# Altium footprint library Pattern No3d 20090609.PcbLib: 323 footprints (part 20 of 22)
Each footprint in its own frame and in the unit in brackets; x right, y up, seen from the top. Pads: shape width x height; smd on the part's side, far side on the other; paste and mask are expansions set on the pad; w line width, h text height; cw(c..) or ccw(c..) is an arc to the next point about the centre after c.
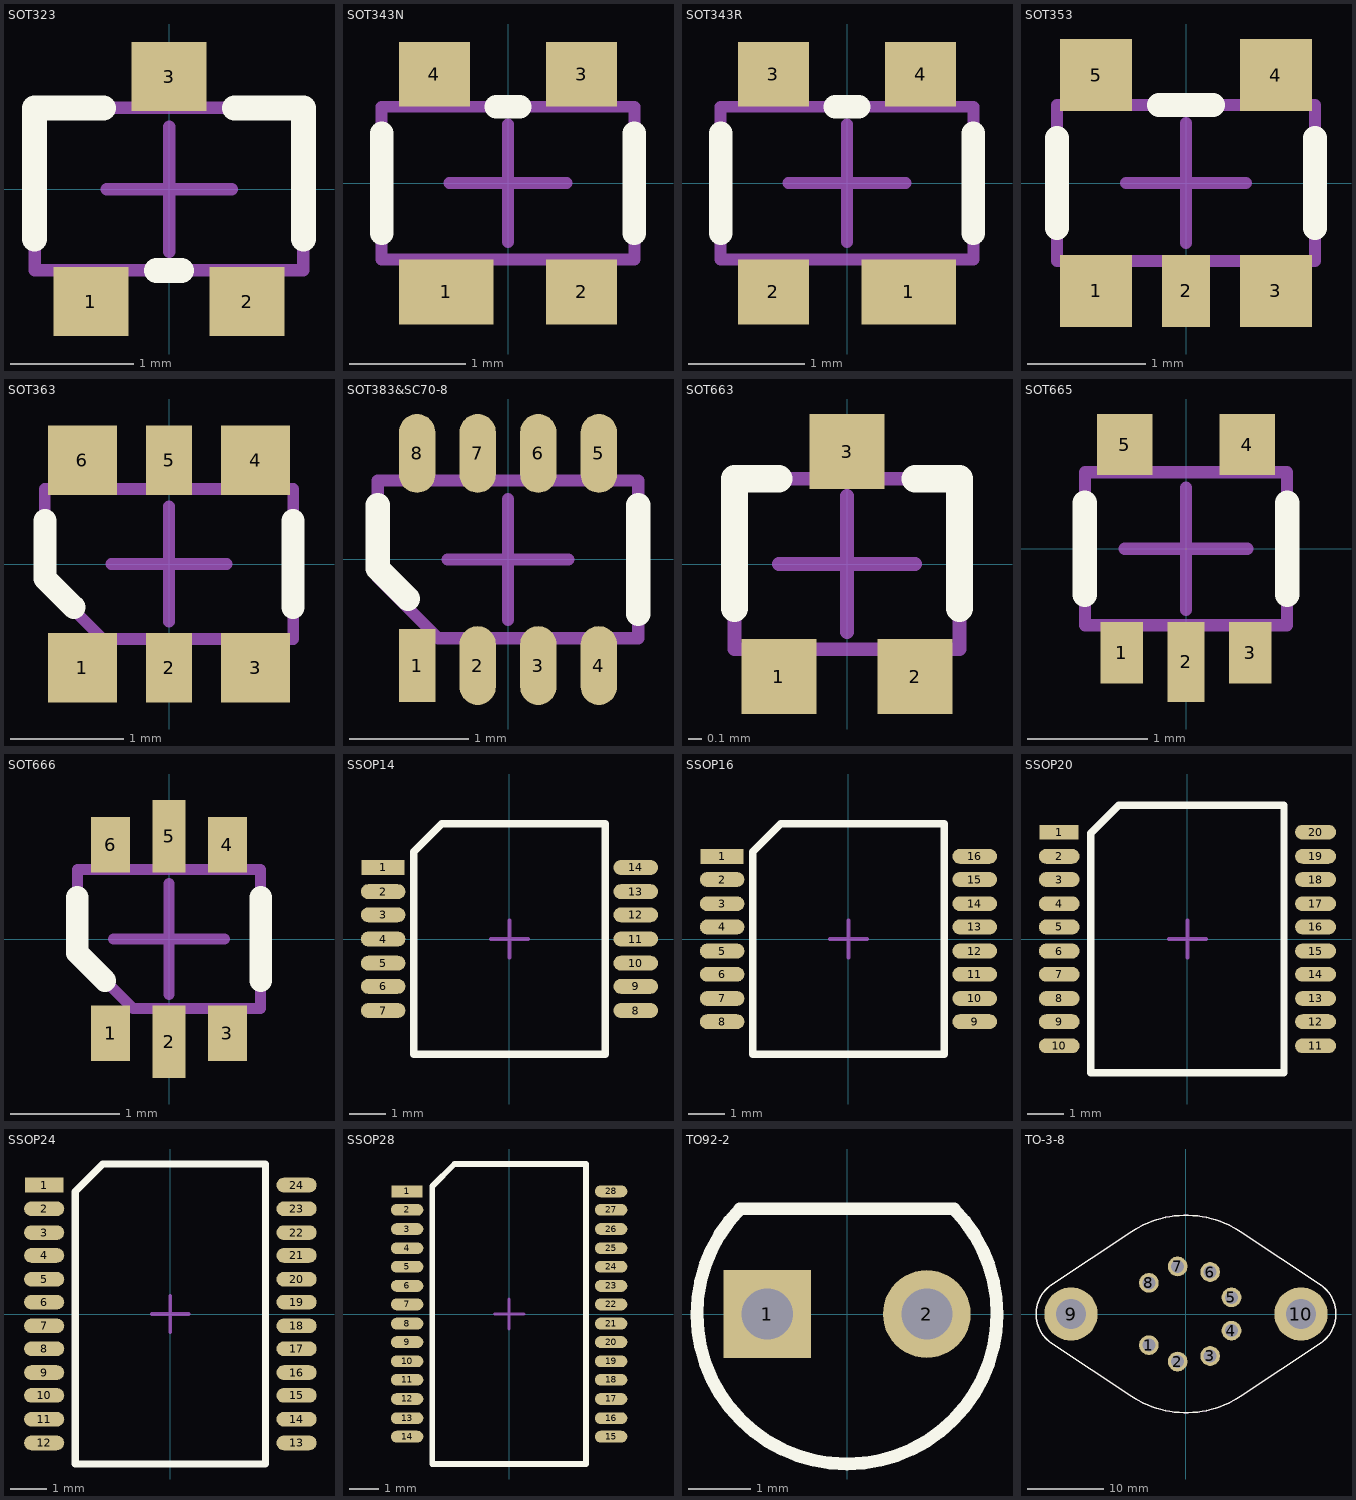
[diagram p19: the footprints below, top view; thin cyan lines are the x and y axes]

## SOT323 [mil] "http://www.nxp.com/acrobat_download/packages/SOT323.pdf"
pads (3):
  rect 24x22 smd mask+4: 1(-25,-36) 2(25,-36) 3(0,36)
Top Overlay:
  lines w8: -43,-16 -43,26 -21,26 ; -4,-26 4,-26 ; 21,26 43,26 43,-16
Mechanical 1:
  lines w4: -43,-26 43,-26 43,26 -43,26 -43,-26
Mechanical 15:
  lines w4: -20,0 20,0 ; 0,-20 0,20

## SOT343N [mil] "http://www.nxp.com/acrobat_download/packages/SOT343N.pdf"
pads (4):
  rect 32x22 smd mask+4: 1(-21,-37)
  rect 24x22 smd mask+4: 2(25,-37) 3(25,37) 4(-25,37)
Top Overlay:
  lines w8: -43,-17 -43,17 ; -4,26 4,26 ; 43,-17 43,17
Mechanical 1:
  lines w4: -43,-26 -43,26 43,26 43,-26 -43,-26
Mechanical 15:
  lines w4: -20,0 20,0 ; 0,-20 0,20

## SOT343R [mil] "http://www.nxp.com/acrobat_download/packages/SOT343R.pdf"
pads (4):
  rect 32x22 smd mask+4: 1(21,-37)
  rect 24x22 smd mask+4: 2(-25,-37) 3(-25,37) 4(25,37)
Top Overlay:
  lines w8: -43,-17 -43,17 ; -4,26 4,26 ; 43,-17 43,17
Mechanical 1:
  lines w4: -43,-26 -43,26 43,26 43,-26 -43,-26
Mechanical 15:
  lines w4: -20,0 20,0 ; 0,-20 0,20

## SOT353 [mil] "http://www.nxp.com/acrobat_download/packages/SOT353.pdf"
pads (5):
  rect 24x24 smd mask-1000: 1(-30,-36) 3(30,-36)
  rect 16x24 smd mask-1000: 2(0,-36)
  rect 24x24 smd mask+4: 4(30,36) 5(-30,36)
Top Overlay:
  lines w8: -43,-15 -43,15 ; -9,26 9,26 ; 43,-15 43,15
Top Solder:
  region: 46,-52 46,-20 16,-20 16,-52
  region: 10,-52 10,-20 -10,-20 -10,-52
  region: -16,-52 -16,-20 -46,-20 -46,-52
Mechanical 1:
  lines w4: -43,-26 43,-26 43,26 -43,26 -43,-26
Mechanical 15:
  lines w4: -20,0 20,0 ; 0,-20 0,20

## SOT363 [mil] "http://www.nxp.com/acrobat_download/packages/SOT363.pdf"
pads (6):
  rect 24x24 smd mask-1000: 1(-30,-36) 3(30,-36) 4(30,36) 6(-30,36)
  rect 16x24 smd mask-1000: 2(0,-36) 5(0,36)
Top Overlay:
  lines w8: -43,15 -43,-5 -33,-15 ; 43,-15 43,15
Top Solder:
  region: 46,20 46,52 16,52 16,20
  region: 10,20 10,52 -10,52 -10,20
  region: -16,20 -16,52 -46,52 -46,20
  region: -16,-52 -16,-20 -46,-20 -46,-52
  region: 10,-52 10,-20 -10,-20 -10,-52
  region: 46,-52 46,-20 16,-20 16,-52
Mechanical 1:
  lines w4: -43,-6 -43,26 43,26 43,-26 -23,-26 -43,-6
Mechanical 15:
  lines w4: -20,0 20,0 ; 0,-20 0,20

## SOT383&SC70-8 [mil] "http://www.linear.com/designtools/packaging/sot/SC8.pdf"
pads (8):
  rect 12x24 smd mask-1000: 1(-30,-35)
  oval 12x26 smd mask-1000: 2(-10,-35) 3(10,-35) 4(30,-35) 5(30,35) 6(10,35) 7(-10,35) 8(-30,35)
Top Overlay:
  lines w8: -43,18 -43,-3 -33,-13 ; 43,-18 43,18
Top Solder:
  region: -23,-51 -23,-19 -39,-19 -39,-51
  lines w14: -30,25 -30,45 ; -10,-45 -10,-25 ; -10,25 -10,45 ; 10,-45 10,-25 ; 10,25 10,45 ; 30,-45 30,-25 ; 30,25 30,45
Mechanical 1:
  lines w4: -43,-6 -23,-26 43,-26 43,26 -43,26 -43,-6
Mechanical 15:
  lines w4: -20,0 20,0 ; 0,-20 0,20

## SOT663 [mil] "http://www.nxp.com/acrobat_download/packages/SOT663.pdf"
pads (3):
  rect 22x22 smd mask+4: 1(-20,-33) 2(20,-33) 3(0,33)
Top Overlay:
  lines w8: -33,-13 -33,25 -20,25 ; 20,25 33,25 33,-13
Mechanical 1:
  lines w4: -33,-25 -33,25 33,25 33,-25 -33,-25
Mechanical 15:
  lines w4: -20,0 20,0 ; 0,-20 0,20

## SOT665 [mil] "http://www.nxp.com/acrobat_download/packages/SOT665.pdf"
pads (5):
  rect 14x20 smd mask-1000: 1(-21,-34) 3(21,-34)
  rect 12x26 smd mask-1000: 2(0,-37)
  rect 18x20 smd mask+4: 4(20,34) 5(-20,34)
Top Overlay:
  lines w8: -33,-15 -33,15 ; 33,-15 33,15
Top Solder:
  region: 31,-48 31,-20 13,-20 13,-48
  region: -13,-48 -13,-20 -31,-20 -31,-48
  region: 7,-54 7,-20 -7,-20 -7,-54
Mechanical 1:
  lines w4: -33,-25 33,-25 33,25 -33,25 -33,-25
Mechanical 15:
  lines w4: -20,0 20,0 ; 0,-20 0,20

## SOT666 [mil] "http://www.nxp.com/acrobat_download/packages/SOT666.pdf"
pads (6):
  rect 14x20 smd mask-1000: 1(-21,-34) 3(21,-34) 4(21,34) 6(-21,34)
  rect 12x26 smd mask-1000: 2(0,-37) 5(0,37)
Top Overlay:
  lines w8: -33,15 -33,-5 -23,-15 ; 33,-15 33,15
Top Solder:
  region: -31,48 -31,20 -13,20 -13,48
  region: 13,48 13,20 31,20 31,48
  region: -7,54 -7,20 7,20 7,54
  region: 7,-54 7,-20 -7,-20 -7,-54
  region: -13,-48 -13,-20 -31,-20 -31,-48
  region: 31,-48 31,-20 13,-20 13,-48
Mechanical 1:
  lines w4: -33,-5 -33,25 33,25 33,-25 -13,-25 -33,-5
Mechanical 15:
  lines w4: -20,0 20,0 ; 0,-20 0,20

## SSOP14 [mil] "http://www.nxp.com/acrobat_download/packages/SOT337-1.pdf"
pads (14):
  rect 46x16 smd mask-1000: 1(-136,77)
  oval 48x16 smd mask-1000: 2(-136,51) 3(-136,26) 4(-136,0) 5(-136,-26) 6(-136,-51) 7(-136,-77) 8(136,-77) 9(136,-51) 10(136,-26) 11(136,0) 12(136,26) 13(136,51) 14(136,77)
Top Overlay:
  lines w8: -103,-124 -103,94 -73,124 103,124 103,-124 -103,-124
Top Solder:
  region: -109,88 -163,88 -163,68 -109,68
  lines w18: -155,-51 -117,-51 ; -155,-26 -117,-26 ; -155,0 -117,0 ; -155,26 -117,26 ; -155,51 -117,51 ; 117,-51 155,-51 ; 117,-26 155,-26 ; 117,0 155,0 ; 117,26 155,26 ; 117,51 155,51
  lines w20: -154,-78 -118,-78 ; 118,-78 154,-78 ; 118,78 154,78
Mechanical 1:
  lines w4: -104,-124 -104,94 -74,124 104,124 104,-124 -104,-124
Mechanical 15:
  lines w4: -20,0 20,0 ; 0,-20 0,20

## SSOP16 [mil] "http://www.nxp.com/acrobat_download/packages/SOT338-1.pdf"
pads (16):
  rect 46x16 smd mask-1000: 1(-136,89)
  oval 48x16 smd mask-1000: 2(-136,64) 3(-136,38) 4(-136,13) 5(-136,-13) 6(-136,-38) 7(-136,-64) 8(-136,-89) 9(136,-89) 10(136,-64) 11(136,-38) 12(136,-13) 13(136,13) 14(136,38) 15(136,64) 16(136,89)
Top Overlay:
  lines w8: -103,-124 -103,94 -73,124 103,124 103,-124 -103,-124
Top Solder:
  region: -109,100 -163,100 -163,80 -109,80
  lines w18: -155,-64 -117,-64 ; -155,-38 -117,-38 ; -155,-13 -117,-13 ; -155,13 -117,13 ; -155,38 -117,38 ; -155,64 -117,64 ; 117,-64 155,-64 ; 117,-38 155,-38 ; 117,-13 155,-13 ; 117,13 155,13 ; 117,38 155,38 ; 117,64 155,64
  lines w20: -154,-90 -118,-90 ; 118,-90 154,-90 ; 118,90 154,90
Mechanical 1:
  lines w4: -104,-124 -104,94 -74,124 104,124 104,-124 -104,-124
Mechanical 15:
  lines w4: -20,0 20,0 ; 0,-20 0,20

## SSOP20 [mil] "http://www.nxp.com/acrobat_download/packages/SOT339-1.pdf"
pads (20):
  rect 42x16 smd mask-1000: 1(-138,115)
  oval 44x16 smd mask-1000: 2(-138,89) 3(-138,64) 4(-138,38) 5(-138,13) 6(-138,-13) 7(-138,-38) 8(-138,-64) 9(-138,-89) 10(-138,-115) 11(138,-115) 12(138,-89) 13(138,-64) 14(138,-38) 15(138,-13) 16(138,13) 17(138,38) 18(138,64) 19(138,89) 20(138,115)
Top Overlay:
  lines w8: -104,-144 104,-144 104,144 -74,144 -104,114 -104,-144
Top Solder:
  region: -113,126 -163,126 -163,106 -113,106
  lines w18: -155,-89 -121,-89 ; -155,-64 -121,-64 ; -155,-38 -121,-38 ; -155,-13 -121,-13 ; -155,13 -121,13 ; -155,38 -121,38 ; -155,64 -121,64 ; -155,89 -121,89 ; 121,-89 155,-89 ; 121,-64 155,-64 ; 121,-38 155,-38 ; 121,-13 155,-13 ; 121,13 155,13 ; 121,38 155,38 ; 121,64 155,64 ; 121,89 155,89
  lines w20: -154,-116 -122,-116 ; 122,-116 154,-116 ; 122,116 154,116
Mechanical 1:
  lines w4: -104,-144 104,-144 104,144 -74,144 -104,114 -104,-144
Mechanical 15:
  lines w4: -20,0 20,0 ; 0,-20 0,20

## SSOP24 [mil] "http://www.nxp.com/acrobat_download/packages/SOT340-1.pdf"
pads (24):
  rect 42x16 smd mask-1000: 1(-138,141)
  oval 44x16 smd mask-1000: 2(-138,115) 3(-138,89) 4(-138,64) 5(-138,38) 6(-138,13) 7(-138,-13) 8(-138,-38) 9(-138,-64) 10(-138,-89) 11(-138,-115) 12(-138,-141) 13(138,-141) 14(138,-115) 15(138,-89) 16(138,-64) 17(138,-38) 18(138,-13) 19(138,13) 20(138,38) 21(138,64) 22(138,89) 23(138,115) 24(138,141)
Top Overlay:
  lines w8: -104,-164 -104,134 -74,164 104,164 104,-164 -104,-164
Top Solder:
  region: -113,152 -163,152 -163,132 -113,132
  lines w18: -155,-115 -121,-115 ; -155,-89 -121,-89 ; -155,-64 -121,-64 ; -155,-38 -121,-38 ; -155,-13 -121,-13 ; -155,13 -121,13 ; -155,38 -121,38 ; -155,64 -121,64 ; -155,89 -121,89 ; -155,115 -121,115 ; 121,-115 155,-115 ; 121,-89 155,-89 ; 121,-64 155,-64 ; 121,-38 155,-38 ; 121,-13 155,-13 ; 121,13 155,13 ; 121,38 155,38 ; 121,64 155,64 ; 121,89 155,89 ; 121,115 155,115
  lines w20: -154,-142 -122,-142 ; 122,-142 154,-142 ; 122,142 154,142
Mechanical 1:
  lines w4: -104,-164 -104,134 -74,164 104,164 104,-164 -104,-164
Mechanical 15:
  lines w4: -20,0 20,0 ; 0,-20 0,20

## SSOP28 [mil] "http://www.nxp.com/acrobat_download/packages/SOT341-1.pdf"
pads (28):
  rect 42x16 smd mask-1000: 1(-138,166)
  oval 44x16 smd mask-1000: 2(-138,141) 3(-138,115) 4(-138,89) 5(-138,64) 6(-138,38) 7(-138,13) 8(-138,-13) 9(-138,-38) 10(-138,-64) 11(-138,-89) 12(-138,-115) 13(-138,-141) 14(-138,-166) 15(138,-166) 16(138,-141) 17(138,-115) 18(138,-89) 19(138,-64) 20(138,-38) 21(138,-13) 22(138,13) 23(138,38) 24(138,64) 25(138,89) 26(138,115) 27(138,141) 28(138,166)
Top Overlay:
  lines w8: -104,-203 104,-203 104,203 -74,203 -104,173 -104,-203
Top Solder:
  region: -113,177 -163,177 -163,157 -113,157
  lines w18: -155,-141 -121,-141 ; -155,-115 -121,-115 ; -155,-89 -121,-89 ; -155,-64 -121,-64 ; -155,-38 -121,-38 ; -155,-13 -121,-13 ; -155,13 -121,13 ; -155,38 -121,38 ; -155,64 -121,64 ; -155,89 -121,89 ; -155,115 -121,115 ; -155,141 -121,141 ; 121,-141 155,-141 ; 121,-115 155,-115 ; 121,-89 155,-89 ; 121,-64 155,-64 ; 121,-38 155,-38 ; 121,-13 155,-13 ; 121,13 155,13 ; 121,38 155,38 ; 121,64 155,64 ; 121,89 155,89 ; 121,115 155,115 ; 121,141 155,141
  lines w20: -154,-167 -122,-167 ; 122,-167 154,-167 ; 122,167 154,167
Mechanical 1:
  lines w4: -104,-203 104,-203 104,203 -74,203 -104,173 -104,-203
Mechanical 15:
  lines w4: -20,0 20,0 ; 0,-20 0,20

## TO92-2 [mil] "http://www.bcdsemi.com/Packaging/flPdf1/TO-92-2.pdf"
pads (2):
  rect 55x55 hole 32 mask+4: 1(-50,0)
  round 55 hole 32 mask+4: 2(50,0)
Top Overlay:
  lines w8: -67,66 67,66 ; -66.96,66.04 ccw(c-0.01,0.02) 66.94,66.04
Mechanical 1:
  lines w4: -67,66 67,66 ; -66.96,66.04 ccw(c-0.01,0.02) 66.94,66.04

## TO-3-8 [mil] "http://www.irf.com/package/hirel/to-3-8.pdf"
pads (10):
  round 102 hole 67 mask+4: 1(-192,-161) 2(-43,-246) 3(125,-217) 4(235,-86) 5(235,86) 6(125,217) 7(-43,246) 8(-192,161)
  round 276 hole 157 mask+4: 9(-594,0) 10(594,0)
Top Overlay:
  lines w8: -694.69,150.41 ccw(c-594,0) -694.43,-150.58 ; -694.25,-150.7 -282.47,-424.63 ; -694.25,150.7 -282.47,424.63 ; -282.23,-424.79 ccw(c0,0) 282.23,-424.79 ; -282.23,424.79 cw(c0,0) 282.23,424.79 ; 282.47,-424.63 694.25,-150.7 ; 282.47,424.63 694.25,150.7 ; 694.43,-150.58 ccw(c594,0) 694.43,150.58
Mechanical 1:
  lines w4: -694.43,-150.58 cw(c-594,0) -694.16,150.76 ; -694.25,-150.7 -282.47,-424.63 ; -694.25,150.7 -282.47,424.63 ; -282.97,-424.3 ccw(c0,0) 282.23,-424.79 ; -282.23,424.79 cw(c0,0) 282.97,424.3 ; 282.47,-424.63 694.25,-150.7 ; 282.47,424.63 694.25,150.7 ; 694.16,-150.76 ccw(c594,0) 694.43,150.58